# EAGLE library part CONNECTOR-8 (library marius)
8-pin connectors
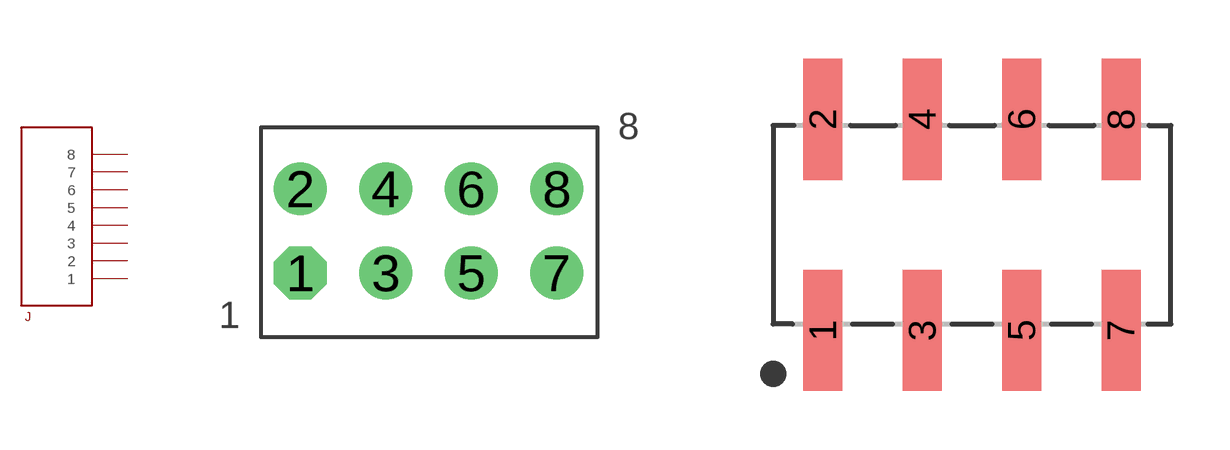
[diagram p14: symbol with the pads of HEADER-4X2; footprints HEADER-4X2, 610X0821121]

Designator prefix J

## CONNECTOR-8HEADER-4X2  [HEADER-4X2]
1  1
2  2
3  3
4  4
5  5
6  6
7  7
8  8

## CONNECTOR-8HEADER-4X2SMT (MPN: 61000821121)  [610X0821121]
Pads as for HEADER-4X2

## Footprint HEADER-4X2 (pad centres in mm)
5-pin JST PH Shrouded Header 2.0mm pitch P/N B5B-PH-K-S. Mating plug PHR-5
drill 1 pad 1.6 octagon: 1 -3.89,-1.222
drill 1 pad 1.6: 2 -3.89,1.317; 3 -1.31,-1.222; 4 -1.31,1.317; 5 1.27,-1.222; 6 1.27,1.317; 7 3.85,-1.222; 8 3.85,1.317

## Footprint 610X0821121 (pad centres in mm)
WR-PHD 2.54mm Dual SMT Pin Header, 8 Pins
smd 1 x 3.1: 1 -3.81,-2.7; 2 -3.81,2.7; 3 -1.27,-2.7; 4 -1.27,2.7; 5 1.27,-2.7; 6 1.27,2.7; 7 3.81,-2.7; 8 3.81,2.7